# EAGLE library part UCC27511 (library ic-TI)
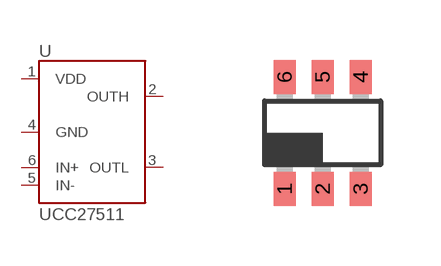
[diagram p39: symbol with the pads of SOT23-6; footprint SOT23-6]

Designator prefix U

## UCC27511  [SOT23-6]
1  VDD
2  OUTH
3  OUTL
4  GND
5  IN-
6  IN+

## Footprint SOT23-6 (pad centres in mm)
smd 0.55 x 0.85: 1 -0.95,-1.4; 2 0,-1.4; 3 0.95,-1.4; 4 0.95,1.4; 5 0,1.4; 6 -0.95,1.4